# EAGLE library part RES-ARRAY-4 (library Passives)
Resistor Array
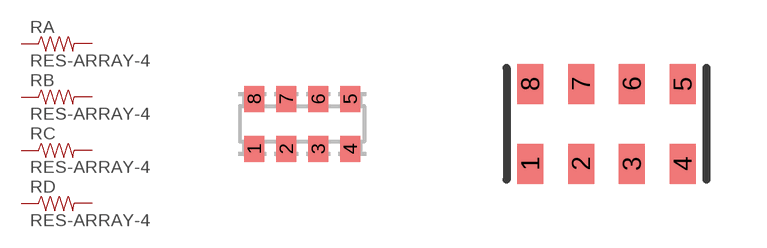
[diagram p2: symbol with the pads of ARV-0603; footprints ARV-0603, ARV-0805]

Designator prefix R; gates A=RES B=RES C=RES D=RES

## RES-ARRAY-40603  [ARV-0603]
1  A:1  pas
2  B:1  pas
3  C:1  pas
4  D:1  pas
5  D:2  pas
6  C:2  pas
7  B:2  pas
8  A:2  pas

## RES-ARRAY-40805  [ARV-0805]
Pads as for ARV-0603

## Footprint ARV-0603 (pad centres in mm)
Chip Resistor Array size 4 × 0603 convex termination - Phycomp Components Source: RS Components
smd 0.5 x 0.65: 1 -1.2,-0.625; 2 -0.4,-0.625; 3 0.4,-0.625; 4 1.2,-0.625; 5 1.2,0.625; 6 0.4,0.625; 7 -0.4,0.625; 8 -1.2,0.625

## Footprint ARV-0805 (pad centres in mm)
smd 0.65 x 1: 1 -1.905,-1; 2 -0.635,-1; 3 0.635,-1; 4 1.905,-1; 5 1.905,1; 6 0.635,1; 7 -0.635,1; 8 -1.905,1